# EAGLE library part RN4871U (library ds_wireless)
The RN4871 is a small form factor, Bluetooth Low Energy module
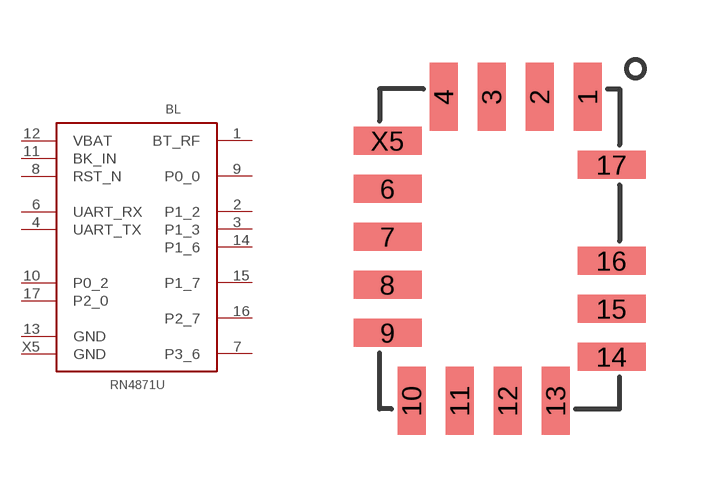
[diagram p2: symbol with the pads of RN4781U; footprint RN4781U]

Designator prefix BL

## RN4871U  [RN4781U]
1  BT_RF
2  P1_2
3  P1_3
4  UART_TX
6  UART_RX
7  P3_6
8  RST_N
9  P0_0
10  P0_2
11  BK_IN
12  VBAT
13  GND
14  P1_6
15  P1_7
16  P2_7
17  P2_0
X5  GND

## Footprint RN4781U (pad centres in mm)
smd 0.7 x 1.7: 1 2.4,4; 2 1.2,4; 3 0,4; 4 -1.2,4; 10 -2,-3.6; 11 -0.8,-3.6; 12 0.4,-3.6; 13 1.6,-3.6
smd 1.7 x 0.7: 6 -2.6,1.7; 7 -2.6,0.5; 8 -2.6,-0.7; 9 -2.6,-1.9; 14 3,-2.5; 15 3,-1.3; 16 3,-0.1; 17 3,2.3; X5 -2.6,2.9